# Altium footprint library 我的元件库.PcbLib: 6 footprints
Each footprint in its own frame and in the unit in brackets; x right, y up, seen from the top. Pads: shape width x height; smd on the part's side, far side on the other; paste and mask are expansions set on the pad; w line width, h text height; cw(c..) or ccw(c..) is an arc to the next point about the centre after c.
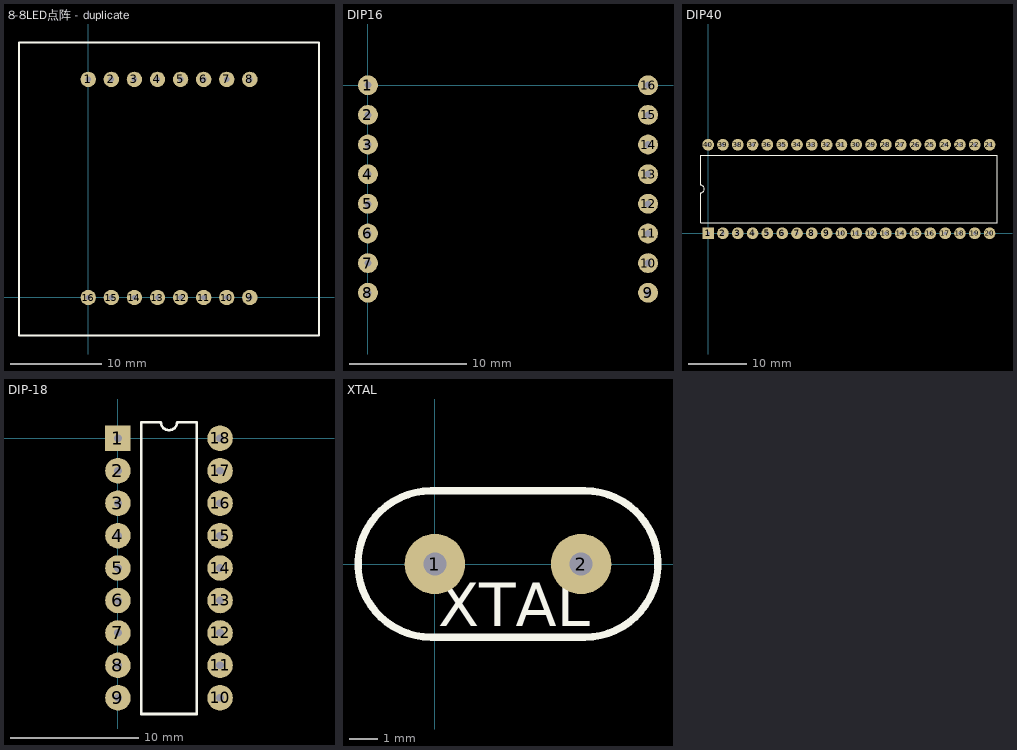
[diagram p0: the footprints below, top view; thin cyan lines are the x and y axes]

## 8-8LED点阵 - duplicate [mm]
height 4
pads (16):
  round 1.7 hole 0.6: 1(0,24.003) 2(2.54,24.003) 3(5.08,24.003) 4(7.62,24.003) 5(10.16,24.003) 6(12.7,24.003) 7(15.24,24.003) 8(17.78,24.003) 9(17.78,-0.003) 10(15.24,-0.003) 11(12.7,-0.003) 12(10.16,-0.003) 13(7.62,-0.003) 14(5.08,-0.003) 15(2.54,-0.003) 16(0,-0.003)
Top Overlay:
  lines w0.2: -7.623,-4.188 -7.623,15.432 -7.623,28.07 25.397,28.07 25.397,-4.188 -7.623,-4.188

## DIP16 [mm]
pads (16):
  round 1.7 hole 0.6: 1(0,0) 2(0,-2.54) 3(0,-5.08) 4(0,-7.62) 5(0,-10.16) 6(0,-12.7) 7(0,-15.24) 8(0,-17.78) 9(24,-17.78) 10(24,-15.24) 11(24,-12.7) 12(24,-10.16) 13(24,-7.62) 14(24,-5.08) 15(24,-2.54) 16(24,0)

## DIP40 [mm]
pads (40):
  rect 2x2 hole 0.6: 1(0,0)
  round 2 hole 0.6: 2(2.54,0) 3(5.08,0) 4(7.62,0) 5(10.16,0) 6(12.7,0) 7(15.24,0) 8(17.78,0) 9(20.32,0) 10(22.86,0) 11(25.4,0) 12(27.94,0) 13(30.48,0) 14(33.02,0) 15(35.56,0) 16(38.1,0) 17(40.64,0) 18(43.18,0) 19(45.72,0) 20(48.26,0) 21(48.26,15.2) 22(45.72,15.2) 23(43.18,15.2) 24(40.64,15.2) 25(38.1,15.2) 26(35.56,15.2) 27(33.02,15.2) 28(30.48,15.2) 29(27.94,15.2) 30(25.4,15.2) 31(22.86,15.2) 32(20.32,15.2) 33(17.78,15.2) 34(15.24,15.2) 35(12.7,15.2) 36(10.16,15.2) 37(7.62,15.2) 38(5.08,15.2) 39(2.54,15.2) 40(0,15.2)
Top Overlay:
  lines w0.2: -1.27,1.835 49.53,1.835 49.53,13.365 -1.27,13.365 -1.27,8.235 cw(c-1.27,7.6) -1.27,6.965 -1.27,1.835

## DIP-18 [mm]
pads (18):
  rect 2x2 hole 0.6: 1(0,0)
  round 2 hole 0.6: 2(0,-2.54) 3(0,-5.08) 4(0,-7.62) 5(0,-10.16) 6(0,-12.7) 7(0,-15.24) 8(0,-17.78) 9(0,-20.32) 10(8,-20.32) 11(8,-17.78) 12(8,-15.24) 13(8,-12.7) 14(8,-10.16) 15(8,-7.62) 16(8,-5.08) 17(8,-2.54) 18(8,0)
Top Overlay:
  lines w0.2: 1.835,-21.59 1.835,1.27 3.365,1.27 ccw(c4,1.27) 4.635,1.27 6.165,1.27 6.165,-21.59 1.835,-21.59

## PCBComponent_1 [mm]

## XTAL [mm]
height 2.5
pads (2):
  round 2.1 hole 0.8: 1(0,0) 2(5.08,0)
Top Overlay:
  lines w0.254: -0.127,-2.54 cw(c-0.127,0) -0.127,2.54 5.207,2.54 cw(c5.207,0) 5.207,-2.54 -0.127,-2.54
  text "XTAL" at 0.127,-2.159 h1.52